# Altium schematic symbol library SCH - POWER - SWITCHMODE - TI TPS62147RGX.SchLib: 1 symbol
Pins are listed as number, name and electrical type; pins without a type are passive.

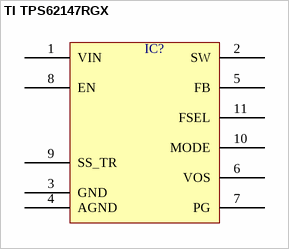
[diagram p0: symbol TI TPS62147RGX]

## TI TPS62147RGX
designator IC?  (value not drawn)
pins: 1 VIN, 2 SW, 3 GND, 4 AGND, 5 FB, 6 VOS, 7 PG, 8 EN, 9 SS_TR, 10 MODE, 11 FSEL